# Altium schematic symbol library CSS0805FT10L0.SchLib: 1 symbol
Pins are listed as number, name and electrical type; pins without a type are passive.

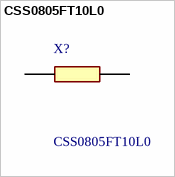
[diagram p0: symbol CSS0805FT10L0]

## CSS0805FT10L0
designator X?
RES SHUNT, 0805, 0.01 ohm, 1%, 0.5W; Manufacturer_Name: Stackpole Electronics, Inc.; Geometry.Height: 0.65mm; Mouser Part Number: 708-CSS0805FT10L0; Mouser Price/Stock: https://www.mouser.co.uk/ProductDetail/SEI-Stackpole/CSS0805FT10L0?qs=IPgv5n7u5QYApC%252BwHqTVbQ%3D%3D; Manufacturer_Part_Number: CSS0805FT10L0; Datasheet Link: https://cs.seielect.com/catalog/SEI-CSS_CSSH.PDF
footprint CSS0805FT10L0
pins: 1, 2